# EAGLE library part USB1035-XX-X-X-X-B_REVE (library USB1035-XX-X-X-X-B_REVE)
USB DUAL RECEPTACLE, TYPE A, 8 PIN, THROUGH HOLE, HORIZONTAL, TOP MOUNTt, WITH KINKED SHELL STAKES
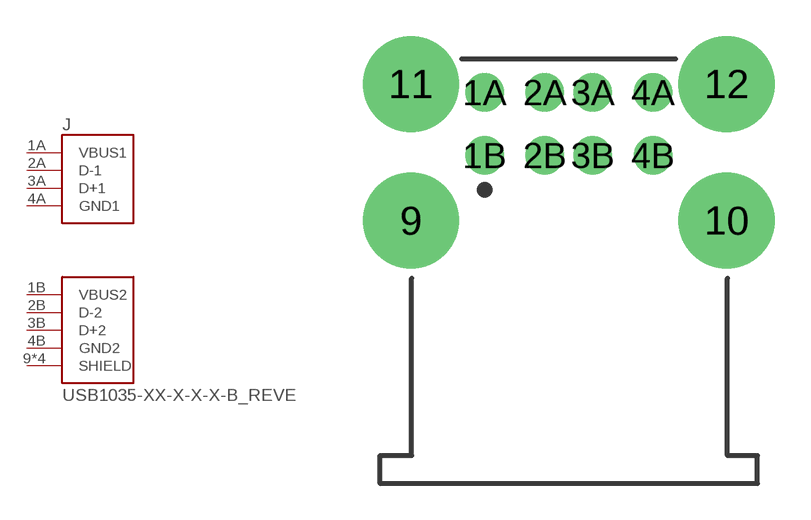
[diagram p0: symbol with the pads of GCT_USB1035-XX-X-X-X-B_REVE; footprint GCT_USB1035-XX-X-X-X-B_REVE]

Designator prefix J

## USB1035-XX-X-X-X-B_REVE (Availability: Warning; Description: Usb Conn, Dual Rcpt, 2.0, 2port, 8pos; MF: Global Connector Technology; MP: USB1035-GF-P-0-B-B; Package: None; Price: 0.47 USD)  [GCT_USB1035-XX-X-X-X-B_REVE]
1A  VBUS1  pwr
1B  VBUS2  pwr
2A  D-1
2B  D-2
3A  D+1
3B  D+2
4A  GND1  pwr
4B  GND2  pwr
9  SHIELD  pwr
10  SHIELD  pwr
11  SHIELD  pwr
12  SHIELD  pwr

## Footprint GCT_USB1035-XX-X-X-X-B_REVE (pad centres in mm)
drill 0.92 pad 1.6: 1A -3.5,5.33; 1B -3.5,2.71; 2A -1,5.33; 2B -1,2.71; 3A 1,5.33; 3B 1,2.71; 4A 3.5,5.33; 4B 3.5,2.71
drill 2.3 pad 4: 9 -6.57,0; 10 6.57,0; 11 -6.57,5.68; 12 6.57,5.68